# Altium footprint library MCT0603MD4701BP100.pcblib: 1 footprints
Each footprint in its own frame and in the unit in brackets; x right, y up, seen from the top. Pads: shape width x height; smd on the part's side, far side on the other; paste and mask are expansions set on the pad; w line width, h text height; cw(c..) or ccw(c..) is an arc to the next point about the centre after c.
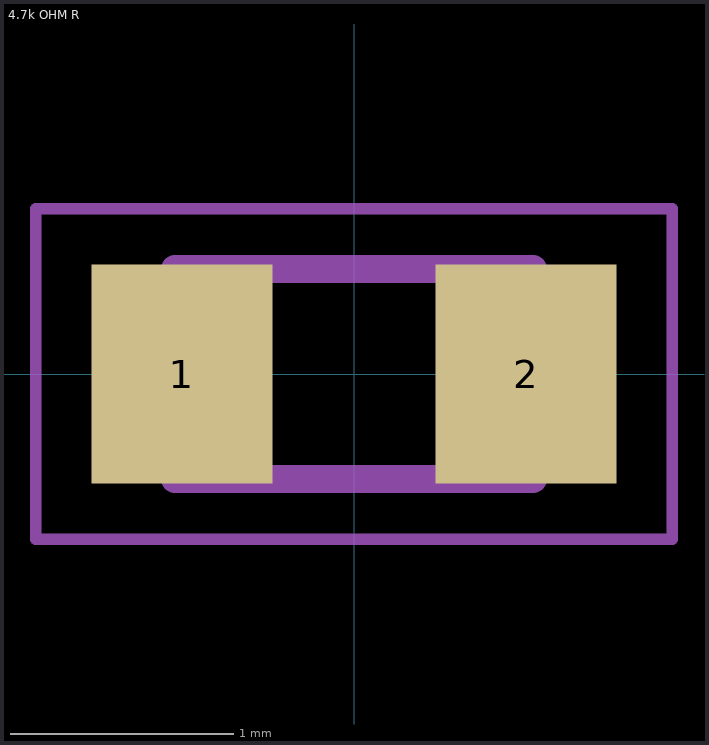
[diagram p0: the footprint, top view; thin cyan lines are the x and y axes]

## 4.7k OHM R [mm]
pads (2):
  rect 0.81x0.98 smd: 1(-0.771,0) 2(0.771,0)
Mechanical 13:
  lines w0.127: -0.8,-0.47 -0.8,0.47 ; -0.8,-0.47 0.8,-0.47 ; -0.8,-0.47 -0.8,0.47 ; -0.8,-0.47 0.8,-0.47 ; -0.8,0.47 0.8,0.47 ; -0.8,0.47 0.8,0.47 ; 0.8,-0.47 0.8,0.47 ; 0.8,-0.47 0.8,0.47
Mechanical 15:
  lines w0.05: -1.425,-0.74 -1.425,0.74 1.425,0.74 1.425,-0.74 -1.425,-0.74